# Altium footprint library 2020-04-06_13-41-43.PcbLib: 3 footprints
Each footprint in its own frame and in the unit in brackets; x right, y up, seen from the top. Pads: shape width x height; smd on the part's side, far side on the other; paste and mask are expansions set on the pad; w line width, h text height; cw(c..) or ccw(c..) is an arc to the next point about the centre after c.
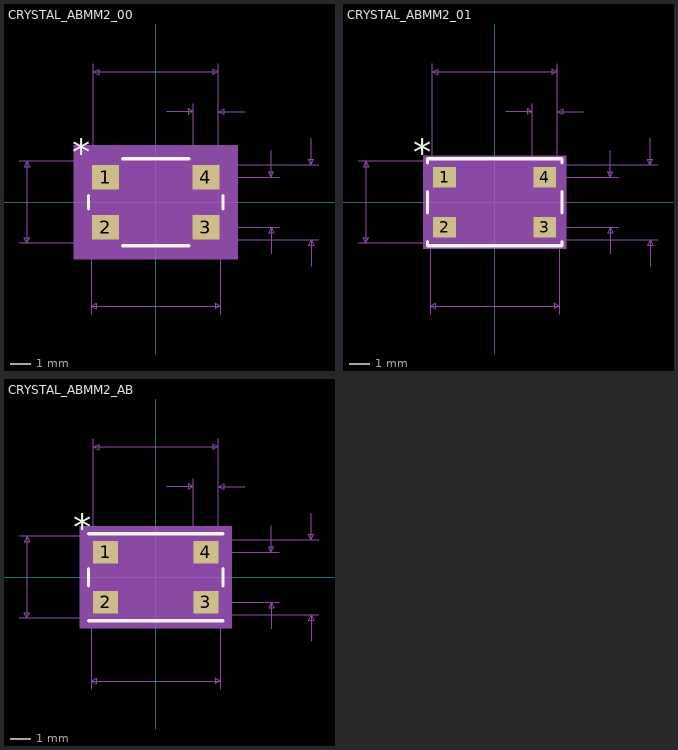
[diagram p0: the footprints below, top view; thin cyan lines are the x and y axes]

## CRYSTAL_ABMM2_00 [mm]
pads (4):
  rect 1.294x1.192 smd paste+0 mask+0: 1(-2.4,1.2) 2(-2.4,-1.2) 3(2.4,-1.2) 4(2.4,1.2)
Top Overlay:
  lines w0.152: -3.226,-0.323 -3.226,0.323 ; -1.585,-2.083 1.585,-2.083 ; -1.585,2.083 1.585,2.083 ; 3.226,-0.323 3.226,0.323
  text "*" at -4,1.765 h1.27
Mechanical 5:
  region: 3.936,-2.742 -3.936,-2.742 -3.936,2.742 3.936,2.742
Mechanical 7:
  lines w0.025: -6.553,-1.956 3.099,-1.956 ; -6.553,1.956 3.099,1.956 3.099,-5.359 ; -3.099,-5.359 -3.099,1.956 ; -2.997,1.2 -2.997,6.629 ; -1.2,-1.803 7.823,-1.803 ; -1.2,1.803 7.823,1.803 ; 0.533,4.343 1.803,4.343 ; 1.803,1.2 1.803,4.724 ; 2.4,-1.2 5.918,-1.2 ; 2.4,1.2 5.918,1.2 ; 2.997,4.724 2.997,1.2 2.997,6.629 ; 4.267,4.343 2.997,4.343 ; 5.537,-2.47 5.537,-1.2 ; 5.537,2.47 5.537,1.2 ; 7.442,-3.073 7.442,-1.803 ; 7.442,3.073 7.442,1.803 ; -6.172,-1.956 -6.172,1.956 ; -6.172,-1.956 -6.299,-1.702 -6.045,-1.702 -6.172,-1.956 ; -6.172,1.956 -6.299,1.702 -6.045,1.702 -6.172,1.956 ; -3.099,-4.978 3.099,-4.978 ; -3.099,-4.978 -2.845,-4.851 -2.845,-5.105 -3.099,-4.978 ; -2.997,6.248 2.997,6.248 ; -2.997,6.248 -2.743,6.375 -2.743,6.121 -2.997,6.248 ; 1.803,4.343 1.549,4.47 1.549,4.216 1.803,4.343 ; 2.997,4.343 3.251,4.47 3.251,4.216 2.997,4.343 ; 2.997,6.248 2.743,6.375 2.743,6.121 2.997,6.248 ; 3.099,-4.978 2.845,-4.851 2.845,-5.105 3.099,-4.978 ; 5.537,-1.2 5.41,-1.454 5.664,-1.454 5.537,-1.2 ; 5.537,1.2 5.41,1.454 5.664,1.454 5.537,1.2 ; 7.442,-1.803 7.315,-2.057 7.569,-2.057 7.442,-1.803 ; 7.442,1.803 7.315,2.057 7.569,2.057 7.442,1.803
  text "Default Padstyle: r119_129" at -8.255,-9.727 h1.27
  text "Alt 1 Padstyle: b152_229h76" at -8.572,-14.299 h1.27
  text "Alt 2 Padstyle: b229_152h76" at -8.572,-15.823 h1.27
  text "0.094in/2.4mm" at 6.045,-0.318 h0.64
  text "0.047in/1.194mm" at 0.019,4.851 h0.64
  text "0.236in/5.994mm" at -2.381,6.756 h0.64
  text "0.142in/3.607mm" at 7.95,-0.318 h0.64
  text "0.154in/3.912mm" at -11.443,-0.318 h0.64
  text "0.244in/6.198mm" at -2.381,-6.121 h0.64
Mechanical 13:
  lines w0.025: -3.099,0.686 -1.829,1.956 ; -3.099,-1.956 3.099,-1.956 ; -3.099,-1.956 -3.099,1.956 ; -3.099,-1.956 -3.099,-1.956 ; -3.099,1.956 3.099,1.956 ; -3.099,1.956 -3.099,1.956 ; 3.099,-1.956 3.099,-1.956 ; 3.099,-1.956 3.099,1.956 ; 3.099,1.956 3.099,1.956 ; -3.099,-1.746 -3.099,-0.654 -2.997,-0.654 -2.997,-1.746 -3.099,-1.746 ; -3.099,0.654 -3.099,1.746 -2.997,1.746 -2.997,0.654 -3.099,0.654 ; 2.997,-1.746 3.099,-1.746 3.099,-0.654 2.997,-0.654 2.997,-1.746 ; 2.997,0.654 3.099,0.654 3.099,1.746 2.997,1.746 2.997,0.654
  text "*" at -2.071,1.765 h1.27
Mechanical 15:
  region: 0.096,-2.464 -3.607,-2.464 -3.607,-2.304 -3.607,2.304 -3.607,2.464 0.096,2.464 -0.096,2.464 3.607,2.464 3.607,2.304 3.607,-2.304 3.607,-2.464 -0.096,-2.464
  lines w0.152: -3.607,-2.304 -3.607,-2.464 0.096,-2.464 ; -3.607,-2.304 -3.607,-2.304 ; -3.607,-2.304 -3.607,2.304 ; -3.607,2.304 -3.607,2.304 ; -3.607,2.304 -3.607,2.464 0.096,2.464 ; -0.096,-2.464 3.607,-2.464 3.607,-2.304 ; -0.096,-2.464 -0.096,-2.464 ; -0.096,-2.464 0.096,-2.464 ; -0.096,2.464 0.096,2.464 ; -0.096,2.464 -0.096,2.464 ; -0.096,2.464 3.607,2.464 3.607,2.304 ; 0.096,-2.464 0.096,-2.464 ; 0.096,2.464 0.096,2.464 ; 3.607,-2.304 3.607,2.304 ; 3.607,-2.304 3.607,-2.304 ; 3.607,2.304 3.607,2.304
3D body: height 0.25, standoff 0, extent 0,0 0.254,0.254

## CRYSTAL_ABMM2_01 [mm]
pads (4):
  rect 1.094x0.992 smd paste+0 mask+0: 1(-2.4,1.2) 2(-2.4,-1.2) 3(2.4,-1.2) 4(2.4,1.2)
Top Overlay:
  lines w0.152: -3.226,-1.878 -3.226,-2.083 3.226,-2.083 3.226,-1.878 ; -3.226,-0.522 -3.226,0.522 ; -3.226,1.878 -3.226,2.083 3.226,2.083 3.226,1.878 ; 3.226,-0.522 3.226,0.522
  text "*" at -3.9,1.765 h1.27
Mechanical 5:
  region: 3.43,-2.236 -3.43,-2.236 -3.43,2.236 3.43,2.236
Mechanical 7:
  lines w0.025: -6.553,-1.956 3.099,-1.956 ; -6.553,1.956 3.099,1.956 3.099,-5.359 ; -3.099,-5.359 -3.099,1.956 ; -2.997,1.2 -2.997,6.629 ; -1.2,-1.803 7.823,-1.803 ; -1.2,1.803 7.823,1.803 ; 0.533,4.343 1.803,4.343 ; 1.803,1.2 1.803,4.724 ; 2.4,-1.2 5.918,-1.2 ; 2.4,1.2 5.918,1.2 ; 2.997,4.724 2.997,1.2 2.997,6.629 ; 4.267,4.343 2.997,4.343 ; 5.537,-2.47 5.537,-1.2 ; 5.537,2.47 5.537,1.2 ; 7.442,-3.073 7.442,-1.803 ; 7.442,3.073 7.442,1.803 ; -6.172,-1.956 -6.172,1.956 ; -6.172,-1.956 -6.299,-1.702 -6.045,-1.702 -6.172,-1.956 ; -6.172,1.956 -6.299,1.702 -6.045,1.702 -6.172,1.956 ; -3.099,-4.978 3.099,-4.978 ; -3.099,-4.978 -2.845,-4.851 -2.845,-5.105 -3.099,-4.978 ; -2.997,6.248 2.997,6.248 ; -2.997,6.248 -2.743,6.375 -2.743,6.121 -2.997,6.248 ; 1.803,4.343 1.549,4.47 1.549,4.216 1.803,4.343 ; 2.997,4.343 3.251,4.47 3.251,4.216 2.997,4.343 ; 2.997,6.248 2.743,6.375 2.743,6.121 2.997,6.248 ; 3.099,-4.978 2.845,-4.851 2.845,-5.105 3.099,-4.978 ; 5.537,-1.2 5.41,-1.454 5.664,-1.454 5.537,-1.2 ; 5.537,1.2 5.41,1.454 5.664,1.454 5.537,1.2 ; 7.442,-1.803 7.315,-2.057 7.569,-2.057 7.442,-1.803 ; 7.442,1.803 7.315,2.057 7.569,2.057 7.442,1.803
  text "Default Padstyle: r99_109" at -7.938,-9.627 h1.27
  text "Alt 1 Padstyle: b152_229h76" at -8.572,-14.199 h1.27
  text "Alt 2 Padstyle: b229_152h76" at -8.572,-15.723 h1.27
  text "0.094in/2.4mm" at 6.045,-0.318 h0.64
  text "0.047in/1.194mm" at 0.019,4.851 h0.64
  text "0.236in/5.994mm" at -2.381,6.756 h0.64
  text "0.142in/3.607mm" at 7.95,-0.318 h0.64
  text "0.154in/3.912mm" at -11.443,-0.318 h0.64
  text "0.244in/6.198mm" at -2.381,-6.121 h0.64
Mechanical 13:
  lines w0.025: -3.099,0.686 -1.829,1.956 ; -3.099,-1.956 3.099,-1.956 ; -3.099,-1.956 -3.099,1.956 ; -3.099,-1.956 -3.099,-1.956 ; -3.099,1.956 3.099,1.956 ; -3.099,1.956 -3.099,1.956 ; 3.099,-1.956 3.099,-1.956 ; 3.099,-1.956 3.099,1.956 ; 3.099,1.956 3.099,1.956 ; -3.099,-1.746 -3.099,-0.654 -2.997,-0.654 -2.997,-1.746 -3.099,-1.746 ; -3.099,0.654 -3.099,1.746 -2.997,1.746 -2.997,0.654 -3.099,0.654 ; 2.997,-1.746 3.099,-1.746 3.099,-0.654 2.997,-0.654 2.997,-1.746 ; 2.997,0.654 3.099,0.654 3.099,1.746 2.997,1.746 2.997,0.654
  text "*" at -2.171,1.765 h1.27
Mechanical 15:
  region: 0.602,-2.057 -3.2,-2.057 -3.2,-1.798 -3.2,1.798 -3.2,2.057 0.602,2.057 -0.602,2.057 3.2,2.057 3.2,1.798 3.2,-1.798 3.2,-2.057 -0.602,-2.057
  lines w0.152: -3.2,-1.798 -3.2,-2.057 0.602,-2.057 ; -3.2,-1.798 -3.2,-1.798 ; -3.2,-1.798 -3.2,1.798 ; -3.2,1.798 -3.2,1.798 ; -3.2,1.798 -3.2,2.057 0.602,2.057 ; -0.602,-2.057 3.2,-2.057 3.2,-1.798 ; -0.602,-2.057 -0.602,-2.057 ; -0.602,-2.057 0.602,-2.057 ; -0.602,2.057 0.602,2.057 ; -0.602,2.057 -0.602,2.057 ; -0.602,2.057 3.2,2.057 3.2,1.798 ; 0.602,-2.057 0.602,-2.057 ; 0.602,2.057 0.602,2.057 ; 3.2,-1.798 3.2,1.798 ; 3.2,-1.798 3.2,-1.798 ; 3.2,1.798 3.2,1.798
3D body: height 0.25, standoff 0, extent 0,0 0.254,0.254

## CRYSTAL_ABMM2_AB [mil]
pads (4):
  rect 47x43 smd paste+0 mask+0: 1(-94.5,47.24) 2(-94.5,-47.24) 3(94.5,-47.24) 4(94.5,47.24)
Top Overlay:
  lines w6: -127,-82 127,-82 ; -127,-16.23 -127,16.23 ; -127,82 127,82 ; 127,-16.23 127,16.23
  text "*" at -155.5,69.49 h50
Mechanical 5:
  region: 143,-96 -143,-96 -143,96 143,96
Mechanical 7:
  lines w1: -258,-77 122,-77 ; -258,77 122,77 122,-211 ; -122,-211 -122,77 ; -118,47.24 -118,261 ; -47.24,-71 308,-71 ; -47.24,71 308,71 ; 21,171 71,171 ; 71,47.24 71,186 ; 94.5,-47.24 233,-47.24 ; 94.5,47.24 233,47.24 ; 118,186 118,47.24 118,261 ; 168,171 118,171 ; 218,-97.24 218,-47.24 ; 218,97.24 218,47.24 ; 293,-121 293,-71 ; 293,121 293,71 ; -243,-77 -243,77 ; -243,-77 -248,-67 -238,-67 -243,-77 ; -243,77 -248,67 -238,67 -243,77 ; -122,-196 122,-196 ; -122,-196 -112,-191 -112,-201 -122,-196 ; -118,246 118,246 ; -118,246 -108,251 -108,241 -118,246 ; 71,171 61,176 61,166 71,171 ; 118,171 128,176 128,166 118,171 ; 118,246 108,251 108,241 118,246 ; 122,-196 112,-191 112,-201 122,-196 ; 218,-47.24 213,-57.24 223,-57.24 218,-47.24 ; 218,47.24 213,57.24 223,57.24 218,47.24 ; 293,-71 288,-81 298,-81 293,-71 ; 293,71 288,81 298,81 293,71
  text "Default Padstyle: r109_119" at -325,-381 h50
  text "Alt 1 Padstyle: b152_229h76" at -337.5,-561 h50
  text "Alt 2 Padstyle: b229_152h76" at -337.5,-621 h50
  text "0.094in/2.4mm" at 238,-12.5 h25
  text "0.047in/1.194mm" at 0.75,191 h25
  text "0.236in/5.994mm" at -93.75,266 h25
  text "0.142in/3.607mm" at 313,-12.5 h25
  text "0.154in/3.912mm" at -450.5,-12.5 h25
  text "0.244in/6.198mm" at -93.75,-241 h25
Mechanical 13:
  lines w1: -122,27 -72,77 ; -122,-77 122,-77 ; -122,-77 -122,77 ; -122,-77 -122,-77 ; -122,77 122,77 ; -122,77 -122,77 ; 122,-77 122,-77 ; 122,-77 122,77 ; 122,77 122,77 ; -122,-68.74 -122,-25.74 -118,-25.74 -118,-68.74 -122,-68.74 ; -122,25.74 -122,68.74 -118,68.74 -118,25.74 -122,25.74 ; 118,-68.74 122,-68.74 122,-25.74 118,-25.74 118,-68.74 ; 118,25.74 122,25.74 122,68.74 118,68.74 118,25.74
  text "*" at -83.5,69.49 h50
Mechanical 15:
  region: 15.74,-87 -132,-87 -132,-78.74 -132,78.74 -132,87 15.74,87 -15.74,87 132,87 132,78.74 132,-78.74 132,-87 -15.74,-87
  lines w6: -132,-78.74 -132,-87 15.74,-87 ; -132,-78.74 -132,-78.74 ; -132,-78.74 -132,78.74 ; -132,78.74 -132,78.74 ; -132,78.74 -132,87 15.74,87 ; -15.74,-87 132,-87 132,-78.74 ; -15.74,-87 -15.74,-87 ; -15.74,-87 15.74,-87 ; -15.74,87 15.74,87 ; -15.74,87 -15.74,87 ; -15.74,87 132,87 132,78.74 ; 15.74,-87 15.74,-87 ; 15.74,87 15.74,87 ; 132,-78.74 132,78.74 ; 132,-78.74 132,-78.74 ; 132,78.74 132,78.74
3D body: height 10, standoff 0, extent 0,0 10,10